# Altium schematic symbol library NSC Audio.SchLib: 691 symbols (part 14 of 18)
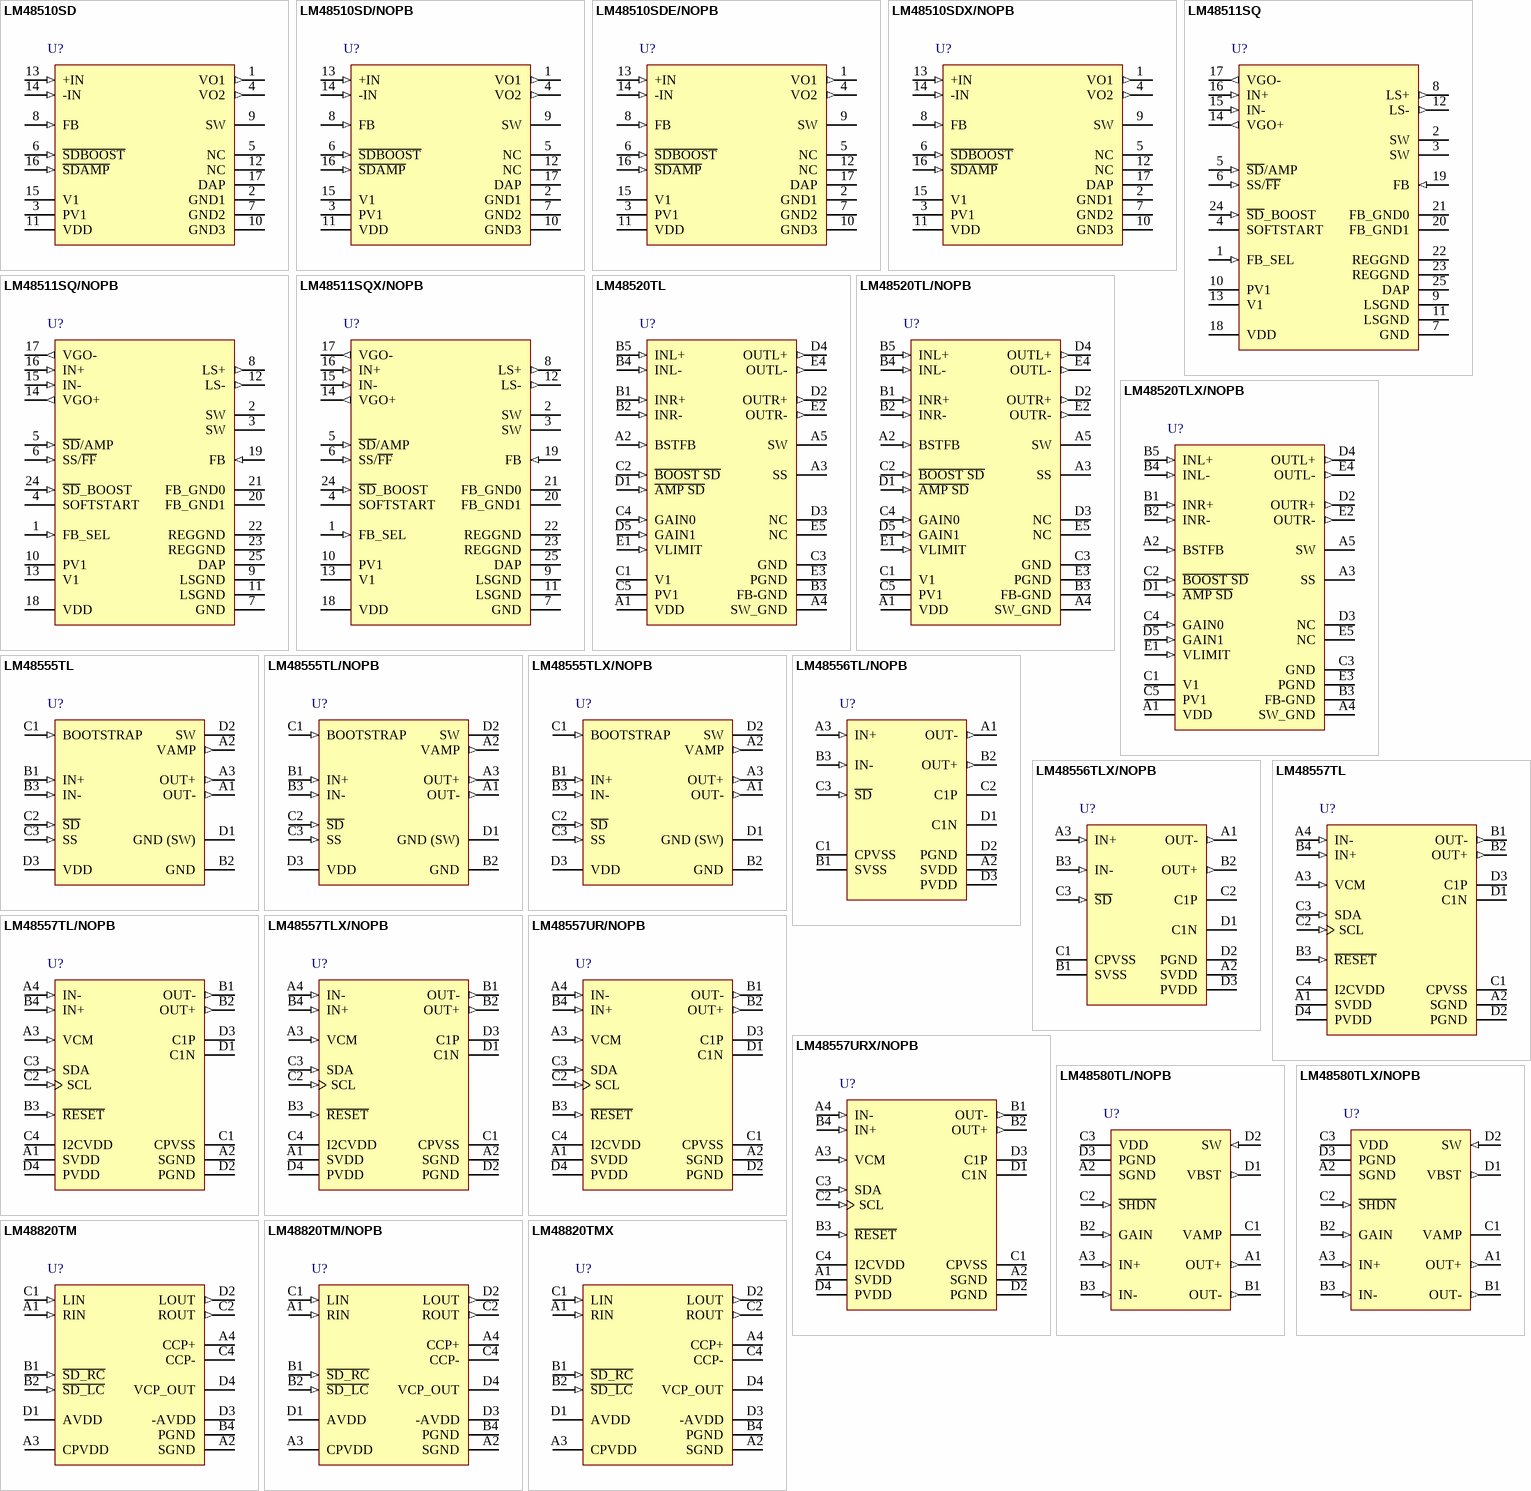
[diagram p40: symbols LM48510SD to LM48820TMX]

## LM48555TLX/NOPB
designator U?
Ceramic Speaker Driver, 12-pin Micro SMD, Pb-Free; PartNumber: LM48555TLX/NOPB; Manufacturer: National Semiconductor; PackageTopMarking: XVG*I I4; PowerWise: N; CompType: Audio IC; Published: 1-Mar-2010; DatasheetVersion: Mar-2007; PackageVersion: revC, Jan-2004; PackageReference: TLA12Z1A; Publisher: Altium Limited; PackageDescription: Thin Micro SMD, 12 Bump (Large), Area Array, 0.5mm Pitch; Supplier 1: Digi-Key; Supplier Part Number 1: LM48555TLX-ND; RoHS: Y; PinCount: 12; Code_JEDEC: MO-211-DE; ComponentLink1Description: LM48555 Datasheet; ComponentLink1URL: http://www.national.com/ds/LM/LM48555.pdf; ComponentLink2Description: LM48555 Web Page; ComponentLink2URL: http://www.national.com/pf/LM/LM48555.html; ComponentLink3Description: TLA12Z1A Package Page; ComponentLink3URL: http://www.national.com/packaging/folders/tla12z1a.html
footprint TLA12Z1A (Micro SMD, 12-Leads, Body 1.97x1.47mm, Pitch 0.5mm, NSC Recommended)
pins: A1 OUT- (out), A2 VAMP (out), A3 OUT+ (out), B1 IN+ (in), B2 GND (power), B3 IN- (in), C1 BOOTSTRAP (in), C2 ~{SD} (in), C3 SS (in), D1 GND (SW) (power), D2 SW (oc), D3 VDD (power)

## LM48556TL/NOPB
designator U?
Fully Differential, Mono, Ceramic Speaker Driver, 12-pin Micro SMD, Pb-Free; PartNumber: LM48556TL/NOPB; Manufacturer: National Semiconductor; PackageTopMarking: XYTT*I GK4; PowerWise: N; CompType: Audio IC; Published: 1-Mar-2010; DatasheetVersion: Dec-2008; PackageVersion: revC, Jan-2004; PackageReference: TLA121AA; Publisher: Altium Limited; PackageDescription: Thin Micro SMD, 12 Bump (Large), Area Array, 0.5mm Pitch; Supplier 1: Digi-Key; Supplier Part Number 1: LM48556TLTR-ND; Supplier 2: Digi-Key; Supplier Part Number 2: LM48556TLCT-ND; Supplier 3: Digi-Key; Supplier Part Number 3: LM48556TLDKR-ND; RoHS: Y; PinCount: 12; Code_JEDEC: MO-211-DE; ComponentLink1Description: LM48556 Datasheet; ComponentLink1URL: http://www.national.com/ds/LM/LM48556.pdf; ComponentLink2Description: LM48556 Web Page; ComponentLink2URL: http://www.national.com/pf/LM/LM48556.html; ComponentLink3Description: TLA121AA Package Page; ComponentLink3URL: http://www.national.com/packaging/folders/tla121aa.html
footprint TLA121AA (Micro SMD, 12-Leads, Body 2.0x1.49mm, Pitch 0.5mm, NSC Recommended)
pins: A1 OUT- (out), A2 SVDD (power), A3 IN+ (in), B1 SVSS (power), B2 OUT+ (out), B3 IN- (in), C1 CPVSS (power), C2 C1P, C3 ~{SD} (in), D1 C1N, D2 PGND (power), D3 PVDD (power)

## LM48556TLX/NOPB
designator U?
Fully Differential, Mono, Ceramic Speaker Driver, 12-pin Micro SMD, Pb-Free; PartNumber: LM48556TLX/NOPB; Manufacturer: National Semiconductor; PackageTopMarking: XYTT*I GK4; PowerWise: N; CompType: Audio IC; Published: 1-Mar-2010; DatasheetVersion: Dec-2008; PackageVersion: revC, Jan-2004; PackageReference: TLA121AA; Publisher: Altium Limited; PackageDescription: Thin Micro SMD, 12 Bump (Large), Area Array, 0.5mm Pitch; Supplier 1: Digi-Key; Supplier Part Number 1: LM48556TLX-ND; RoHS: Y; PinCount: 12; Code_JEDEC: MO-211-DE; ComponentLink1Description: LM48556 Datasheet; ComponentLink1URL: http://www.national.com/ds/LM/LM48556.pdf; ComponentLink2Description: LM48556 Web Page; ComponentLink2URL: http://www.national.com/pf/LM/LM48556.html; ComponentLink3Description: TLA121AA Package Page; ComponentLink3URL: http://www.national.com/packaging/folders/tla121aa.html
footprint TLA121AA (Micro SMD, 12-Leads, Body 2.0x1.49mm, Pitch 0.5mm, NSC Recommended)
pins: A1 OUT- (out), A2 SVDD (power), A3 IN+ (in), B1 SVSS (power), B2 OUT+ (out), B3 IN- (in), C1 CPVSS (power), C2 C1P, C3 ~{SD} (in), D1 C1N, D2 PGND (power), D3 PVDD (power)

## LM48557TL
designator U?
Mono, Bridge-Tied Load, Ceramic Speaker Driver with I2C Volume Control and Reset, 16-pin Micro SMD; PartNumber: LM48557TL; Manufacturer: National Semiconductor; PackageTopMarking: XYTT*I GM2; PowerWise: N; CompType: Audio IC; Published: 9-Oct-2009; DatasheetVersion: Aug-2009; PackageVersion: revC, Jan-2004; PackageReference: TLA1611A; Publisher: Altium Limited; PackageDescription: Thin Micro SMD, 16 Bump (Large), 0.5mm Pitch; RoHS: Y; PinCount: 16; Code_JEDEC: MO-211-DF; ComponentLink1Description: LM48557 Datasheet; ComponentLink1URL: http://www.national.com/ds/LM/LM48557.pdf; ComponentLink2Description: LM48557 Web Page; ComponentLink2URL: http://www.national.com/pf/LM/LM48557.html; ComponentLink3Description: TLA1611A Package Page; ComponentLink3URL: http://www.national.com/packaging/folders/tla1611a.html
footprint TLA1611A (Micro SMD, 16-Leads, Body 1.97x1.97mm, Pitch 0.5mm, NSC Recommended)
pins: A1 SVDD (power), A2 SGND (power), A3 VCM (in), A4 IN- (in), B1 OUT- (out), B2 OUT+ (out), B3 ~{RESET} (in), B4 IN+ (in), C1 CPVSS (power), C2 SCL (in), C3 SDA (in), C4 I2CVDD (power), D1 C1N, D2 PGND (power), D3 C1P, D4 PVDD (power)

## LM48557TL/NOPB
designator U?
Mono, Bridge-Tied Load, Ceramic Speaker Driver with I2C Volume Control and Reset, 16-pin Micro SMD, Pb-Free; PartNumber: LM48557TL/NOPB; Manufacturer: National Semiconductor; PackageTopMarking: XYTT*I GM2; PowerWise: N; CompType: Audio IC; Published: 1-Mar-2010; DatasheetVersion: Aug-2009; PackageVersion: revC, Jan-2004; PackageReference: TLA1611A; Publisher: Altium Limited; PackageDescription: Thin Micro SMD, 16 Bump (Large), 0.5mm Pitch; Supplier 1: Digi-Key; Supplier Part Number 1: LM48557TLTR-ND; Supplier 2: Digi-Key; Supplier Part Number 2: LM48557TLCT-ND; Supplier 3: Digi-Key; Supplier Part Number 3: LM48557TLDKR-ND; RoHS: Y; PinCount: 16; Code_JEDEC: MO-211-DF; ComponentLink1Description: LM48557 Datasheet; ComponentLink1URL: http://www.national.com/ds/LM/LM48557.pdf; ComponentLink2Description: LM48557 Web Page; ComponentLink2URL: http://www.national.com/pf/LM/LM48557.html; ComponentLink3Description: TLA1611A Package Page; ComponentLink3URL: http://www.national.com/packaging/folders/tla1611a.html
footprint TLA1611A (Micro SMD, 16-Leads, Body 1.97x1.97mm, Pitch 0.5mm, NSC Recommended)
pins: A1 SVDD (power), A2 SGND (power), A3 VCM (in), A4 IN- (in), B1 OUT- (out), B2 OUT+ (out), B3 ~{RESET} (in), B4 IN+ (in), C1 CPVSS (power), C2 SCL (in), C3 SDA (in), C4 I2CVDD (power), D1 C1N, D2 PGND (power), D3 C1P, D4 PVDD (power)

## LM48557TLX/NOPB
designator U?
Mono, Bridge-Tied Load, Ceramic Speaker Driver with I2C Volume Control and Reset, 16-pin Micro SMD, Pb-Free; PartNumber: LM48557TLX/NOPB; Manufacturer: National Semiconductor; PackageTopMarking: XYTT*I GM2; PowerWise: N; CompType: Audio IC; Published: 1-Mar-2010; DatasheetVersion: Aug-2009; PackageVersion: revC, Jan-2004; PackageReference: TLA1611A; Publisher: Altium Limited; PackageDescription: Thin Micro SMD, 16 Bump (Large), 0.5mm Pitch; Supplier 1: Digi-Key; Supplier Part Number 1: LM48557TLX-ND; RoHS: Y; PinCount: 16; Code_JEDEC: MO-211-DF; ComponentLink1Description: LM48557 Datasheet; ComponentLink1URL: http://www.national.com/ds/LM/LM48557.pdf; ComponentLink2Description: LM48557 Web Page; ComponentLink2URL: http://www.national.com/pf/LM/LM48557.html; ComponentLink3Description: TLA1611A Package Page; ComponentLink3URL: http://www.national.com/packaging/folders/tla1611a.html
footprint TLA1611A (Micro SMD, 16-Leads, Body 1.97x1.97mm, Pitch 0.5mm, NSC Recommended)
pins: A1 SVDD (power), A2 SGND (power), A3 VCM (in), A4 IN- (in), B1 OUT- (out), B2 OUT+ (out), B3 ~{RESET} (in), B4 IN+ (in), C1 CPVSS (power), C2 SCL (in), C3 SDA (in), C4 I2CVDD (power), D1 C1N, D2 PGND (power), D3 C1P, D4 PVDD (power)

## LM48557UR/NOPB
designator U?
Mono, Bridge-Tied Load, Ceramic Speaker Driver with I2C Volume Control and Reset, 16 pin MICRO SMD; PartNumber: LM48557UR/NOPB; Manufacturer: National Semiconductor; PackageTopMarking: XYTT*I GN5; PowerWise: N; CompType: Audio IC; Published: 16-Nov-2010; DatasheetVersion: Aug-2009; PackageVersion: revC, Jan-2004; PackageReference: TLA1611A; Publisher: Altium Limited; PackageDescription: Thin Micro SMD, 16 Bump (Large), 0.5mm Pitch; RoHS: Y; PinCount: 16; Code_JEDEC: MO-211-DF; ComponentLink1Description: LM48557 Datasheet; ComponentLink1URL: http://www.national.com/ds/LM/LM48557.pdf; ComponentLink2Description: LM48557 Web Page; ComponentLink2URL: http://www.national.com/pf/LM/LM48557.html; ComponentLink3Description: URA1611A Package Page; ComponentLink3URL: http://www.national.com/packaging/folders/tla1611a.html
footprint TLA1611A (Micro SMD, 16-Leads, Body 1.97x1.97mm, Pitch 0.5mm, NSC Recommended)
pins: A1 SVDD (power), A2 SGND (power), A3 VCM (in), A4 IN- (in), B1 OUT- (out), B2 OUT+ (out), B3 ~{RESET} (in), B4 IN+ (in), C1 CPVSS (power), C2 SCL (in), C3 SDA (in), C4 I2CVDD (power), D1 C1N, D2 PGND (power), D3 C1P, D4 PVDD (power)

## LM48557URX/NOPB
designator U?
Mono, Bridge-Tied Load, Ceramic Speaker Driver with I2C Volume Control and Reset, 16 pin MICRO SMD; PartNumber: LM48557URX/NOPB; Manufacturer: National Semiconductor; PackageTopMarking: XYTT*I GN5; PowerWise: N; CompType: Audio IC; Published: 16-Nov-2010; DatasheetVersion: Aug-2009; PackageVersion: revC, Jan-2004; PackageReference: TLA1611A; Publisher: Altium Limited; PackageDescription: Thin Micro SMD, 16 Bump (Large), 0.5mm Pitch; RoHS: Y; PinCount: 16; Code_JEDEC: MO-211-DF; ComponentLink1Description: LM48557 Datasheet; ComponentLink1URL: http://www.national.com/ds/LM/LM48557.pdf; ComponentLink2Description: LM48557 Web Page; ComponentLink2URL: http://www.national.com/pf/LM/LM48557.html; ComponentLink3Description: URA1611A Package Page; ComponentLink3URL: http://www.national.com/packaging/folders/tla1611a.html
footprint TLA1611A (Micro SMD, 16-Leads, Body 1.97x1.97mm, Pitch 0.5mm, NSC Recommended)
pins: A1 SVDD (power), A2 SGND (power), A3 VCM (in), A4 IN- (in), B1 OUT- (out), B2 OUT+ (out), B3 ~{RESET} (in), B4 IN+ (in), C1 CPVSS (power), C2 SCL (in), C3 SDA (in), C4 I2CVDD (power), D1 C1N, D2 PGND (power), D3 C1P, D4 PVDD (power)

## LM48580TL/NOPB
designator U?
High Efficiency Class H, High Voltage, Haptic Piezo Actuator / Ceramic Speaker Driver, 12 pin Micro SMD, Pb-Free; PartNumber: LM48580TL/NOPB; Manufacturer: National Semiconductor; PackageTopMarking: XYTT*I GM3; PowerWise: Y; CompType: Audio IC; Published: 1-Mar-2010; DatasheetVersion: Feb-2010; PackageVersion: revC, Jan-2004; PackageReference: TLA12Z1A; Publisher: Altium Limited; PackageDescription: Thin Micro SMD, 12 Bump (Large), Area Array, 0.5mm Pitch; Supplier 1: Digi-Key; Supplier Part Number 1: LM48580TL/NOPB-ND; RoHS: Y; PinCount: 12; Code_JEDEC: MO-211-DE; ComponentLink1Description: LM48580 Datasheet; ComponentLink1URL: http://www.national.com/ds/LM/LM48580.pdf; ComponentLink2Description: LM48580 Web Page; ComponentLink2URL: http://www.national.com/pf/LM/LM48580.html; ComponentLink3Description: TLA12Z1A Package Page; ComponentLink3URL: http://www.national.com/packaging/folders/tla12z1a.html
footprint TLA12Z1A (Micro SMD, 12-Leads, Body 1.97x1.47mm, Pitch 0.5mm, NSC Recommended)
pins: A1 OUT+ (out), A2 SGND (power), A3 IN+ (in), B1 OUT- (out), B2 GAIN (in), B3 IN- (in), C1 VAMP (power), C2 ~{SHDN} (in), C3 VDD (power), D1 VBST (out), D2 SW (in), D3 PGND (power)

## LM48580TLX/NOPB
designator U?
High Efficiency Class H, High Voltage, Haptic Piezo Actuator / Ceramic Speaker Driver, 12 pin Micro SMD, Pb-Free; PartNumber: LM48580TLX/NOPB; Manufacturer: National Semiconductor; PackageTopMarking: XYTT*I GM3; PowerWise: Y; CompType: Audio IC; Published: 1-Mar-2010; DatasheetVersion: Feb-2010; PackageVersion: revC, Jan-2004; PackageReference: TLA12Z1A; Publisher: Altium Limited; PackageDescription: Thin Micro SMD, 12 Bump (Large), Area Array, 0.5mm Pitch; Supplier 1: Digi-Key; Supplier Part Number 1: LM48580TLXTR-ND; Supplier 2: Digi-Key; Supplier Part Number 2: LM48580TLXCT-ND; Supplier 3: Digi-Key; Supplier Part Number 3: LM48580TLXDKR-ND; RoHS: Y; PinCount: 12; Code_JEDEC: MO-211-DE; ComponentLink1Description: LM48580 Datasheet; ComponentLink1URL: http://www.national.com/ds/LM/LM48580.pdf; ComponentLink2Description: LM48580 Web Page; ComponentLink2URL: http://www.national.com/pf/LM/LM48580.html; ComponentLink3Description: TLA12Z1A Package Page; ComponentLink3URL: http://www.national.com/packaging/folders/tla12z1a.html
footprint TLA12Z1A (Micro SMD, 12-Leads, Body 1.97x1.47mm, Pitch 0.5mm, NSC Recommended)
pins: A1 OUT+ (out), A2 SGND (power), A3 IN+ (in), B1 OUT- (out), B2 GAIN (in), B3 IN- (in), C1 VAMP (power), C2 ~{SHDN} (in), C3 VDD (power), D1 VBST (out), D2 SW (in), D3 PGND (power)

## LM48820TM
designator U?
Ground-Referenced, Ultra Low Noise, Fixed Gain, 95mW Stereo Headphone Amplifier, 14-pin Micro SMD; PartNumber: LM48820TM; Manufacturer: National Semiconductor; PackageTopMarking: XYTT*I GI7; PowerWise: N; CompType: Audio IC; Published: 4-Dec-2008; DatasheetVersion: Jun-2007; PackageVersion: revA, 2007; PackageReference: TME14AAA; Publisher: Altium Limited; PackageDescription: Thin Micro SMD, Depopulated, 14 Bump, 0.4mm Pitch; RoHS: N; PinCount: 14; ComponentLink1Description: LM48820 Datasheet; ComponentLink1URL: http://www.national.com/ds/LM/LM48820.pdf; ComponentLink2Description: LM48820 Web Page; ComponentLink2URL: http://www.national.com/pf/LM/LM48820.html; ComponentLink3Description: TME14AAA Package Page; ComponentLink3URL: http://www.national.com/packaging/folders/tme14aaa.html
footprint TME14AAA (Micro SMD, 14-Leads, Body 1.62x1.62mm, Pitch 0.4mm, NSC Recommended)
pins: A1 RIN (in), A2 SGND (power), A3 CPVDD (power), A4 CCP+, B1 ~{SD_RC} (in), B2 ~{SD_LC} (in), B4 PGND (power), C1 LIN (in), C2 ROUT (out), C4 CCP-, D1 AVDD (power), D2 LOUT (out), D3 -AVDD (power), D4 VCP_OUT (power)

## LM48820TM/NOPB
designator U?
Ground-Referenced, Ultra Low Noise, Fixed Gain, 95mW Stereo Headphone Amplifier, 14-pin Micro SMD, Pb-Free; PartNumber: LM48820TM/NOPB; Manufacturer: National Semiconductor; PackageTopMarking: XYTT*I GI7; PowerWise: N; CompType: Audio IC; Published: 1-Mar-2010; DatasheetVersion: Jun-2007; PackageVersion: revA, 2007; PackageReference: TME14AAA; Publisher: Altium Limited; PackageDescription: Thin Micro SMD, Depopulated, 14 Bump, 0.4mm Pitch; Supplier 1: Digi-Key; Supplier Part Number 1: LM48820TMTR-ND; Supplier 2: Digi-Key; Supplier Part Number 2: LM48820TMCT-ND; Supplier 3: Digi-Key; Supplier Part Number 3: LM48820TMDKR-ND; Supplier 4: Farnell; Supplier Part Number 4: 1685332; RoHS: Y; PinCount: 14; ComponentLink1Description: LM48820 Datasheet; ComponentLink1URL: http://www.national.com/ds/LM/LM48820.pdf; ComponentLink2Description: LM48820 Web Page; ComponentLink2URL: http://www.national.com/pf/LM/LM48820.html; ComponentLink3Description: TME14AAA Package Page; ComponentLink3URL: http://www.national.com/packaging/folders/tme14aaa.html
footprint TME14AAA (Micro SMD, 14-Leads, Body 1.62x1.62mm, Pitch 0.4mm, NSC Recommended)
pins: A1 RIN (in), A2 SGND (power), A3 CPVDD (power), A4 CCP+, B1 ~{SD_RC} (in), B2 ~{SD_LC} (in), B4 PGND (power), C1 LIN (in), C2 ROUT (out), C4 CCP-, D1 AVDD (power), D2 LOUT (out), D3 -AVDD (power), D4 VCP_OUT (power)

## LM48820TMX
designator U?
Ground-Referenced, Ultra Low Noise, Fixed Gain, 95mW Stereo Headphone Amplifier, 14-pin Micro SMD; PartNumber: LM48820TMX; Manufacturer: National Semiconductor; PackageTopMarking: XYTT*I GI7; PowerWise: N; CompType: Audio IC; Published: 1-Mar-2010; DatasheetVersion: Jun-2007; PackageVersion: revA, 2007; PackageReference: TME14AAA; Publisher: Altium Limited; PackageDescription: Thin Micro SMD, Depopulated, 14 Bump, 0.4mm Pitch; RoHS: N; PinCount: 14; ComponentLink1Description: LM48820 Datasheet; ComponentLink1URL: http://www.national.com/ds/LM/LM48820.pdf; ComponentLink2Description: LM48820 Web Page; ComponentLink2URL: http://www.national.com/pf/LM/LM48820.html; ComponentLink3Description: TME14AAA Package Page; ComponentLink3URL: http://www.national.com/packaging/folders/tme14aaa.html
footprint TME14AAA (Micro SMD, 14-Leads, Body 1.62x1.62mm, Pitch 0.4mm, NSC Recommended)
pins: A1 RIN (in), A2 SGND (power), A3 CPVDD (power), A4 CCP+, B1 ~{SD_RC} (in), B2 ~{SD_LC} (in), B4 PGND (power), C1 LIN (in), C2 ROUT (out), C4 CCP-, D1 AVDD (power), D2 LOUT (out), D3 -AVDD (power), D4 VCP_OUT (power)

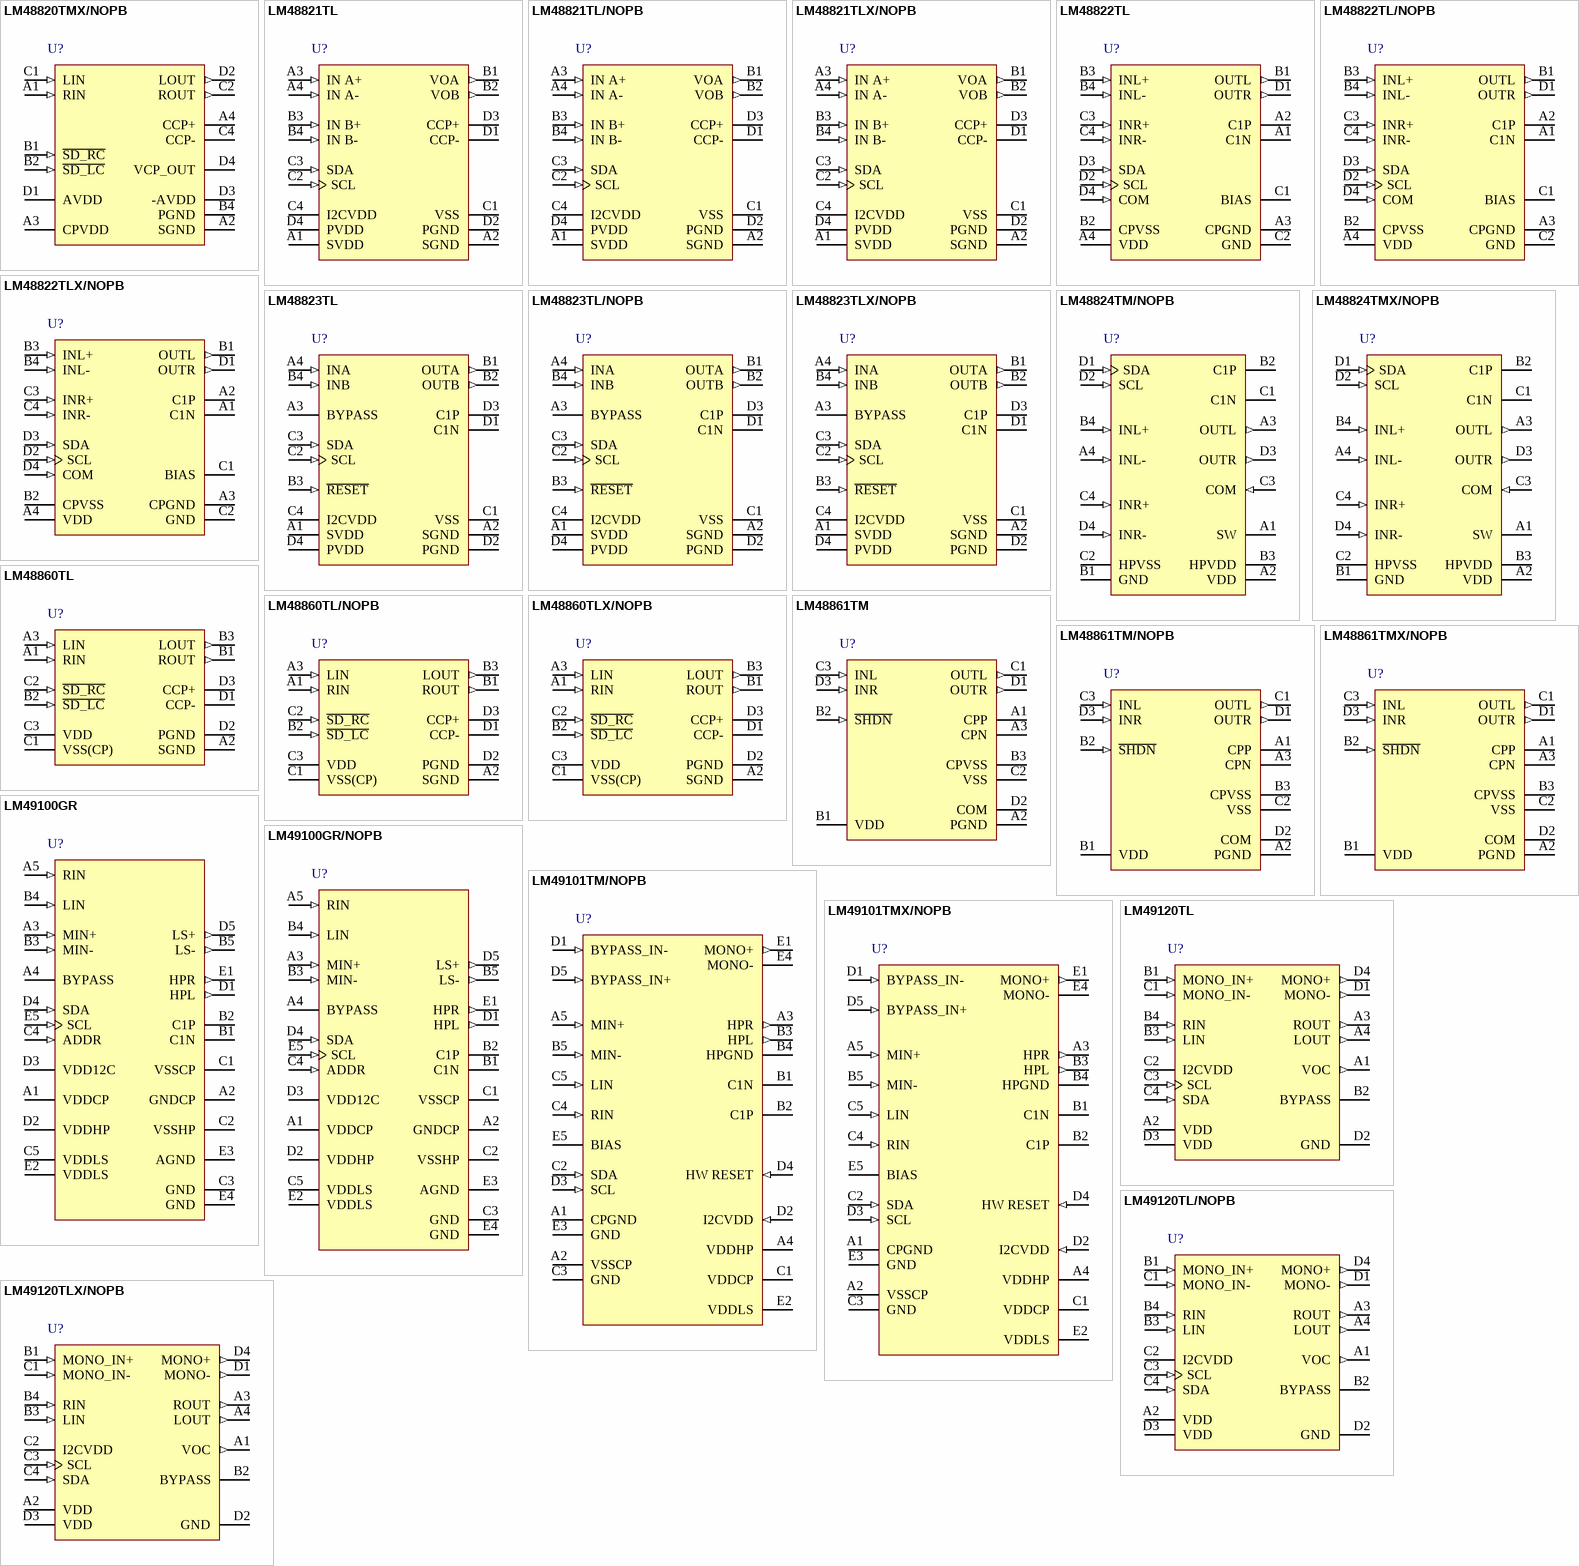
[diagram p20: symbols LM48820TMX/NOPB to LM49120TLX/NOPB]

## LM48820TMX/NOPB
designator U?
Ground-Referenced, Ultra Low Noise, Fixed Gain, 95mW Stereo Headphone Amplifier, 14-pin Micro SMD, Pb-Free; PartNumber: LM48820TMX/NOPB; Manufacturer: National Semiconductor; PackageTopMarking: XYTT*I GI7; PowerWise: N; CompType: Audio IC; Published: 1-Mar-2010; DatasheetVersion: Jun-2007; PackageVersion: revA, 2007; PackageReference: TME14AAA; Publisher: Altium Limited; PackageDescription: Thin Micro SMD, Depopulated, 14 Bump, 0.4mm Pitch; Supplier 1: Digi-Key; Supplier Part Number 1: LM48820TMX-ND; RoHS: Y; PinCount: 14; ComponentLink1Description: LM48820 Datasheet; ComponentLink1URL: http://www.national.com/ds/LM/LM48820.pdf; ComponentLink2Description: LM48820 Web Page; ComponentLink2URL: http://www.national.com/pf/LM/LM48820.html; ComponentLink3Description: TME14AAA Package Page; ComponentLink3URL: http://www.national.com/packaging/folders/tme14aaa.html
footprint TME14AAA (Micro SMD, 14-Leads, Body 1.62x1.62mm, Pitch 0.4mm, NSC Recommended)
pins: A1 RIN (in), A2 SGND (power), A3 CPVDD (power), A4 CCP+, B1 ~{SD_RC} (in), B2 ~{SD_LC} (in), B4 PGND (power), C1 LIN (in), C2 ROUT (out), C4 CCP-, D1 AVDD (power), D2 LOUT (out), D3 -AVDD (power), D4 VCP_OUT (power)

## LM48821TL
designator U?
Direct Coupled, Ultra Low Noise, 52mW Differential Input Stereo Headphone Amplifier with I2C Volume Control, 16-pin Micro SMD; PartNumber: LM48821TL; Manufacturer: National Semiconductor; PackageTopMarking: XYTT*I G16; PowerWise: N; CompType: Audio IC; Published: 4-Dec-2008; DatasheetVersion: Jun-2007; PackageVersion: revC, Jan-2004; PackageReference: TLA1611A; Publisher: Altium Limited; PackageDescription: Thin Micro SMD, 16 Bump (Large), 0.5mm Pitch; RoHS: Y; PinCount: 16; Code_JEDEC: MO-211-DF; ComponentLink1Description: LM48821 Datasheet; ComponentLink1URL: http://www.national.com/ds/LM/LM48821.pdf; ComponentLink2Description: LM48821 Web Page; ComponentLink2URL: http://www.national.com/pf/LM/LM48821.html; ComponentLink3Description: TLA1611A Package Page; ComponentLink3URL: http://www.national.com/packaging/folders/tla1611a.html
footprint TLA1611A (Micro SMD, 16-Leads, Body 1.97x1.97mm, Pitch 0.5mm, NSC Recommended)
pins: A1 SVDD (power), A2 SGND (power), A3 IN A+ (in), A4 IN A- (in), B1 VOA (out), B2 VOB (out), B3 IN B+ (in), B4 IN B- (in), C1 VSS (power), C2 SCL (in), C3 SDA (in), C4 I2CVDD (power), D1 CCP-, D2 PGND (power), D3 CCP+, D4 PVDD (power)

## LM48821TL/NOPB
designator U?
Direct Coupled, Ultra Low Noise, 52mW Differential Input Stereo Headphone Amplifier with I2C Volume Control, 16-pin Micro SMD, Pb-Free; PartNumber: LM48821TL/NOPB; Manufacturer: National Semiconductor; PackageTopMarking: XYTT*I G16; PowerWise: N; CompType: Audio IC; Published: 1-Mar-2010; DatasheetVersion: Jun-2007; PackageVersion: revC, Jan-2004; PackageReference: TLA1611A; Publisher: Altium Limited; PackageDescription: Thin Micro SMD, 16 Bump (Large), 0.5mm Pitch; Supplier 1: Digi-Key; Supplier Part Number 1: LM48821TLTR-ND; Supplier 2: Digi-Key; Supplier Part Number 2: LM48821TLCT-ND; Supplier 3: Digi-Key; Supplier Part Number 3: LM48821TLDKR-ND; RoHS: Y; PinCount: 16; Code_JEDEC: MO-211-DF; ComponentLink1Description: LM48821 Datasheet; ComponentLink1URL: http://www.national.com/ds/LM/LM48821.pdf; ComponentLink2Description: LM48821 Web Page; ComponentLink2URL: http://www.national.com/pf/LM/LM48821.html; ComponentLink3Description: TLA1611A Package Page; ComponentLink3URL: http://www.national.com/packaging/folders/tla1611a.html
footprint TLA1611A (Micro SMD, 16-Leads, Body 1.97x1.97mm, Pitch 0.5mm, NSC Recommended)
pins: A1 SVDD (power), A2 SGND (power), A3 IN A+ (in), A4 IN A- (in), B1 VOA (out), B2 VOB (out), B3 IN B+ (in), B4 IN B- (in), C1 VSS (power), C2 SCL (in), C3 SDA (in), C4 I2CVDD (power), D1 CCP-, D2 PGND (power), D3 CCP+, D4 PVDD (power)

## LM48821TLX/NOPB
designator U?
Direct Coupled, Ultra Low Noise, 52mW Differential Input Stereo Headphone Amplifier with I2C Volume Control, 16-pin Micro SMD, Pb-Free; PartNumber: LM48821TLX/NOPB; Manufacturer: National Semiconductor; PackageTopMarking: XYTT*I G16; PowerWise: N; CompType: Audio IC; Published: 1-Mar-2010; DatasheetVersion: Jun-2007; PackageVersion: revC, Jan-2004; PackageReference: TLA1611A; Publisher: Altium Limited; PackageDescription: Thin Micro SMD, 16 Bump (Large), 0.5mm Pitch; Supplier 1: Digi-Key; Supplier Part Number 1: LM48821TLX-ND; RoHS: Y; PinCount: 16; Code_JEDEC: MO-211-DF; ComponentLink1Description: LM48821 Datasheet; ComponentLink1URL: http://www.national.com/ds/LM/LM48821.pdf; ComponentLink2Description: LM48821 Web Page; ComponentLink2URL: http://www.national.com/pf/LM/LM48821.html; ComponentLink3Description: TLA1611A Package Page; ComponentLink3URL: http://www.national.com/packaging/folders/tla1611a.html
footprint TLA1611A (Micro SMD, 16-Leads, Body 1.97x1.97mm, Pitch 0.5mm, NSC Recommended)
pins: A1 SVDD (power), A2 SGND (power), A3 IN A+ (in), A4 IN A- (in), B1 VOA (out), B2 VOB (out), B3 IN B+ (in), B4 IN B- (in), C1 VSS (power), C2 SCL (in), C3 SDA (in), C4 I2CVDD (power), D1 CCP-, D2 PGND (power), D3 CCP+, D4 PVDD (power)

## LM48822TL
designator U?
Ground-Referenced, Ultra-High PSRR, Ultra Low Noise, 35mW/Channel Stereo Headphone AMplifier with Common Mode Sense, and I2C Volume Control, 16-pin Micro SMD; PartNumber: LM48822TL; Manufacturer: National Semiconductor; PackageTopMarking: XYTT*I GK1; PowerWise: N; CompType: Audio IC; Published: 4-Dec-2008; DatasheetVersion: Jul-2008; PackageVersion: revC, Jan-2004; PackageReference: TLA1611A; Publisher: Altium Limited; PackageDescription: Thin Micro SMD, 16 Bump (Large), 0.5mm Pitch; RoHS: Y; PinCount: 16; Code_JEDEC: MO-211-DF; ComponentLink1Description: LM48822 Datasheet; ComponentLink1URL: http://www.national.com/ds/LM/LM48822.pdf; ComponentLink2Description: LM48822 Web Page; ComponentLink2URL: http://www.national.com/pf/LM/LM48822.html; ComponentLink3Description: TLA1611A Package Page; ComponentLink3URL: http://www.national.com/packaging/folders/tla1611a.html
footprint TLA1611A (Micro SMD, 16-Leads, Body 1.97x1.97mm, Pitch 0.5mm, NSC Recommended)
pins: A1 C1N, A2 C1P, A3 CPGND (power), A4 VDD (power), B1 OUTL (out), B2 CPVSS (power), B3 INL+ (in), B4 INL- (in), C1 BIAS (power), C2 GND (power), C3 INR+ (in), C4 INR- (in), D1 OUTR (out), D2 SCL (in), D3 SDA (in), D4 COM (in)

## LM48822TL/NOPB
designator U?
Ground-Referenced, Ultra-High PSRR, Ultra Low Noise, 35mW/Channel Stereo Headphone AMplifier with Common Mode Sense, and I2C Volume Control, 16-pin Micro SMD, Pb-Free; PartNumber: LM48822TL/NOPB; Manufacturer: National Semiconductor; PackageTopMarking: XYTT*I GK1; PowerWise: N; CompType: Audio IC; Published: 1-Mar-2010; DatasheetVersion: Jul-2008; PackageVersion: revC, Jan-2004; PackageReference: TLA1611A; Publisher: Altium Limited; PackageDescription: Thin Micro SMD, 16 Bump (Large), 0.5mm Pitch; Supplier 1: Digi-Key; Supplier Part Number 1: LM48822TLTR-ND; Supplier 2: Digi-Key; Supplier Part Number 2: LM48822TLCT-ND; Supplier 3: Digi-Key; Supplier Part Number 3: LM48822TLDKR-ND; RoHS: Y; PinCount: 16; Code_JEDEC: MO-211-DF; ComponentLink1Description: LM48822 Datasheet; ComponentLink1URL: http://www.national.com/ds/LM/LM48822.pdf; ComponentLink2Description: LM48822 Web Page; ComponentLink2URL: http://www.national.com/pf/LM/LM48822.html; ComponentLink3Description: TLA1611A Package Page; ComponentLink3URL: http://www.national.com/packaging/folders/tla1611a.html
footprint TLA1611A (Micro SMD, 16-Leads, Body 1.97x1.97mm, Pitch 0.5mm, NSC Recommended)
pins: A1 C1N, A2 C1P, A3 CPGND (power), A4 VDD (power), B1 OUTL (out), B2 CPVSS (power), B3 INL+ (in), B4 INL- (in), C1 BIAS (power), C2 GND (power), C3 INR+ (in), C4 INR- (in), D1 OUTR (out), D2 SCL (in), D3 SDA (in), D4 COM (in)

## LM48822TLX/NOPB
designator U?
Ground-Referenced, Ultra-High PSRR, Ultra Low Noise, 35mW/Channel Stereo Headphone AMplifier with Common Mode Sense, and I2C Volume Control, 16-pin Micro SMD, Pb-Free; PartNumber: LM48822TLX/NOPB; Manufacturer: National Semiconductor; PackageTopMarking: XYTT*I GK1; PowerWise: N; CompType: Audio IC; Published: 1-Mar-2010; DatasheetVersion: Jul-2008; PackageVersion: revC, Jan-2004; PackageReference: TLA1611A; Publisher: Altium Limited; PackageDescription: Thin Micro SMD, 16 Bump (Large), 0.5mm Pitch; Supplier 1: Digi-Key; Supplier Part Number 1: LM48822TLX-ND; RoHS: Y; PinCount: 16; Code_JEDEC: MO-211-DF; ComponentLink1Description: LM48822 Datasheet; ComponentLink1URL: http://www.national.com/ds/LM/LM48822.pdf; ComponentLink2Description: LM48822 Web Page; ComponentLink2URL: http://www.national.com/pf/LM/LM48822.html; ComponentLink3Description: TLA1611A Package Page; ComponentLink3URL: http://www.national.com/packaging/folders/tla1611a.html
footprint TLA1611A (Micro SMD, 16-Leads, Body 1.97x1.97mm, Pitch 0.5mm, NSC Recommended)
pins: A1 C1N, A2 C1P, A3 CPGND (power), A4 VDD (power), B1 OUTL (out), B2 CPVSS (power), B3 INL+ (in), B4 INL- (in), C1 BIAS (power), C2 GND (power), C3 INR+ (in), C4 INR- (in), D1 OUTR (out), D2 SCL (in), D3 SDA (in), D4 COM (in)

## LM48823TL
designator U?
Mono, Bridge-Tied Load, Ceramic Speaker Driver with I2C Volume Control and Reset, 16-pin Micro SMD; PartNumber: LM48823TL; Manufacturer: National Semiconductor; PackageTopMarking: XYTT*I GK6; PowerWise: N; CompType: Audio IC; Published: 4-Dec-2008; DatasheetVersion: Jul-2008; PackageVersion: revC, Jan-2004; PackageReference: TLA1611A; Publisher: Altium Limited; PackageDescription: Thin Micro SMD, 16 Bump (Large), 0.5mm Pitch; RoHS: N; PinCount: 16; Code_JEDEC: MO-211-DF; ComponentLink1Description: LM48823 Datasheet; ComponentLink1URL: http://www.national.com/ds/LM/LM48823.pdf; ComponentLink2Description: LM48823 Web Page; ComponentLink2URL: http://www.national.com/pf/LM/LM48823.html; ComponentLink3Description: TLA1611A Package Page; ComponentLink3URL: http://www.national.com/packaging/folders/tla1611a.html
footprint TLA1611A (Micro SMD, 16-Leads, Body 1.97x1.97mm, Pitch 0.5mm, NSC Recommended)
pins: A1 SVDD (power), A2 SGND (power), A3 BYPASS, A4 INA (in), B1 OUTA (out), B2 OUTB (out), B3 ~{RESET} (in), B4 INB (in), C1 VSS (power), C2 SCL (in), C3 SDA (in), C4 I2CVDD (power), D1 C1N, D2 PGND (power), D3 C1P, D4 PVDD (power)

## LM48823TL/NOPB
designator U?
Mono, Bridge-Tied Load, Ceramic Speaker Driver with I2C Volume Control and Reset, 16-pin Micro SMD, Pb-Free; PartNumber: LM48823TL/NOPB; Manufacturer: National Semiconductor; PackageTopMarking: XYTT*I GK6; PowerWise: N; CompType: Audio IC; Published: 1-Mar-2010; DatasheetVersion: Jul-2008; PackageVersion: revC, Jan-2004; PackageReference: TLA1611A; Publisher: Altium Limited; PackageDescription: Thin Micro SMD, 16 Bump (Large), 0.5mm Pitch; Supplier 1: Digi-Key; Supplier Part Number 1: LM48823TLTR-ND; Supplier 2: Digi-Key; Supplier Part Number 2: LM48823TLCT-ND; Supplier 3: Digi-Key; Supplier Part Number 3: LM48823TLDKR-ND; RoHS: Y; PinCount: 16; Code_JEDEC: MO-211-DF; ComponentLink1Description: LM48823 Datasheet; ComponentLink1URL: http://www.national.com/ds/LM/LM48823.pdf; ComponentLink2Description: LM48823 Web Page; ComponentLink2URL: http://www.national.com/pf/LM/LM48823.html; ComponentLink3Description: TLA1611A Package Page; ComponentLink3URL: http://www.national.com/packaging/folders/tla1611a.html
footprint TLA1611A (Micro SMD, 16-Leads, Body 1.97x1.97mm, Pitch 0.5mm, NSC Recommended)
pins: A1 SVDD (power), A2 SGND (power), A3 BYPASS, A4 INA (in), B1 OUTA (out), B2 OUTB (out), B3 ~{RESET} (in), B4 INB (in), C1 VSS (power), C2 SCL (in), C3 SDA (in), C4 I2CVDD (power), D1 C1N, D2 PGND (power), D3 C1P, D4 PVDD (power)

## LM48823TLX/NOPB
designator U?
Mono, Bridge-Tied Load, Ceramic Speaker Driver with I2C Volume Control and Reset, 16-pin Micro SMD, Pb-Free; PartNumber: LM48823TLX/NOPB; Manufacturer: National Semiconductor; PackageTopMarking: XYTT*I GK6; PowerWise: N; CompType: Audio IC; Published: 1-Mar-2010; DatasheetVersion: Jul-2008; PackageVersion: revC, Jan-2004; PackageReference: TLA1611A; Publisher: Altium Limited; PackageDescription: Thin Micro SMD, 16 Bump (Large), 0.5mm Pitch; Supplier 1: Digi-Key; Supplier Part Number 1: LM48823TLX-ND; RoHS: Y; PinCount: 16; Code_JEDEC: MO-211-DF; ComponentLink1Description: LM48823 Datasheet; ComponentLink1URL: http://www.national.com/ds/LM/LM48823.pdf; ComponentLink2Description: LM48823 Web Page; ComponentLink2URL: http://www.national.com/pf/LM/LM48823.html; ComponentLink3Description: TLA1611A Package Page; ComponentLink3URL: http://www.national.com/packaging/folders/tla1611a.html
footprint TLA1611A (Micro SMD, 16-Leads, Body 1.97x1.97mm, Pitch 0.5mm, NSC Recommended)
pins: A1 SVDD (power), A2 SGND (power), A3 BYPASS, A4 INA (in), B1 OUTA (out), B2 OUTB (out), B3 ~{RESET} (in), B4 INB (in), C1 VSS (power), C2 SCL (in), C3 SDA (in), C4 I2CVDD (power), D1 C1N, D2 PGND (power), D3 C1P, D4 PVDD (power)

## LM48824TM/NOPB
designator U?
Class G Headphone Amplifier with I2C Volume Control, 16-pin Micro SMD, Pb-Free; PartNumber: LM48824TM/NOPB; Manufacturer: National Semiconductor; PackageTopMarking: XYTT*I GL6; PowerWise: N; CompType: Audio IC; Published: 1-Mar-2010; DatasheetVersion: Aug-2009; PackageVersion: revA, 2009; PackageReference: TMD16DDA; Publisher: Altium Limited; PackageDescription: Thin Micro SMD, 16 Bump, 0.4mm Pitch; Supplier 1: Digi-Key; Supplier Part Number 1: LM48824TMTR-ND; Supplier 2: Digi-Key; Supplier Part Number 2: LM48824TMCT-ND; Supplier 3: Digi-Key; Supplier Part Number 3: LM48824TMDKR-ND; RoHS: Y; PinCount: 16; ComponentLink1Description: LM48824 Datasheet; ComponentLink1URL: http://www.national.com/ds/LM/LM48824.pdf; ComponentLink2Description: LM48824 Web Page; ComponentLink2URL: http://www.national.com/pf/LM/LM48824.html; ComponentLink3Description: TMD16DDA Package Page; ComponentLink3URL: http://www.national.com/packaging/folders/tmd16dda.html
footprint TMD16DDA (Micro SMD, 16-Leads, Body 1.7x1.7mm, Pitch 0.4mm, NSC Recommended)
pins: A1 SW, A2 VDD (power), A3 OUTL (out), A4 INL- (in), B1 GND (power), B2 C1P, B3 HPVDD (power), B4 INL+ (in), C1 C1N, C2 HPVSS, C3 COM (in), C4 INR+ (in), D1 SDA (in), D2 SCL (in), D3 OUTR (out), D4 INR- (in)

## LM48824TMX/NOPB
designator U?
Class G Headphone Amplifier with I2C Volume Control, 16-pin Micro SMD, Pb-Free; PartNumber: LM48824TMX/NOPB; Manufacturer: National Semiconductor; PackageTopMarking: XYTT*I GL6; PowerWise: N; CompType: Audio IC; Published: 1-Mar-2010; DatasheetVersion: Aug-2009; PackageVersion: revA, 2009; PackageReference: TMD16DDA; Publisher: Altium Limited; PackageDescription: Thin Micro SMD, 16 Bump, 0.4mm Pitch; Supplier 1: Digi-Key; Supplier Part Number 1: LM48824TMX-ND; RoHS: Y; PinCount: 16; ComponentLink1Description: LM48824 Datasheet; ComponentLink1URL: http://www.national.com/ds/LM/LM48824.pdf; ComponentLink2Description: LM48824 Web Page; ComponentLink2URL: http://www.national.com/pf/LM/LM48824.html; ComponentLink3Description: TMD16DDA Package Page; ComponentLink3URL: http://www.national.com/packaging/folders/tmd16dda.html
footprint TMD16DDA (Micro SMD, 16-Leads, Body 1.7x1.7mm, Pitch 0.4mm, NSC Recommended)
pins: A1 SW, A2 VDD (power), A3 OUTL (out), A4 INL- (in), B1 GND (power), B2 C1P, B3 HPVDD (power), B4 INL+ (in), C1 C1N, C2 HPVSS, C3 COM (in), C4 INR+ (in), D1 SDA (in), D2 SCL (in), D3 OUTR (out), D4 INR- (in)

## LM48860TL
designator U?
Ground-Referenced, Ultra Low Noise, Fixed Gain Stereo Headphone Amplifier, 12-pin Micro SMD; PartNumber: LM48860TL; Manufacturer: National Semiconductor; PackageTopMarking: XYTT*I GJ7; PowerWise: N; CompType: Audio IC; Published: 4-Dec-2008; DatasheetVersion: Oct-2008; PackageVersion: revC, Jan-2004; PackageReference: TLA12Z1A; Publisher: Altium Limited; PackageDescription: Thin Micro SMD, 12 Bump (Large), Area Array, 0.5mm Pitch; Supplier 1: Farnell; Supplier Part Number 1: 1609168; RoHS: Y; PinCount: 12; Code_JEDEC: MO-211-DE; ComponentLink1Description: LM48860 Datasheet; ComponentLink1URL: http://www.national.com/ds/LM/LM48860.pdf; ComponentLink2Description: LM48860 Web Page; ComponentLink2URL: http://www.national.com/pf/LM/LM48860.html; ComponentLink3Description: TLA12Z1A Package Page; ComponentLink3URL: http://www.national.com/packaging/folders/tla12z1a.html
footprint TLA12Z1A (Micro SMD, 12-Leads, Body 1.97x1.47mm, Pitch 0.5mm, NSC Recommended)
pins: A1 RIN (in), A2 SGND (power), A3 LIN (in), B1 ROUT (out), B2 ~{SD_LC} (in), B3 LOUT (out), C1 VSS(CP) (power), C2 ~{SD_RC} (in), C3 VDD (power), D1 CCP-, D2 PGND (power), D3 CCP+

## LM48860TL/NOPB
designator U?
Ground-Referenced, Ultra Low Noise, Fixed Gain Stereo Headphone Amplifier, 12-pin Micro SMD, Pb-Free; PartNumber: LM48860TL/NOPB; Manufacturer: National Semiconductor; PackageTopMarking: XYTT*I GJ7; PowerWise: N; CompType: Audio IC; Published: 1-Mar-2010; DatasheetVersion: Oct-2008; PackageVersion: revC, Jan-2004; PackageReference: TLA12Z1A; Publisher: Altium Limited; PackageDescription: Thin Micro SMD, 12 Bump (Large), Area Array, 0.5mm Pitch; Supplier 1: Digi-Key; Supplier Part Number 1: LM48860TLTR-ND; Supplier 2: Digi-Key; Supplier Part Number 2: LM48860TLCT-ND; Supplier 3: Digi-Key; Supplier Part Number 3: LM48860TLDKR-ND; RoHS: Y; PinCount: 12; Code_JEDEC: MO-211-DE; ComponentLink1Description: LM48860 Datasheet; ComponentLink1URL: http://www.national.com/ds/LM/LM48860.pdf; ComponentLink2Description: LM48860 Web Page; ComponentLink2URL: http://www.national.com/pf/LM/LM48860.html; ComponentLink3Description: TLA12Z1A Package Page; ComponentLink3URL: http://www.national.com/packaging/folders/tla12z1a.html
footprint TLA12Z1A (Micro SMD, 12-Leads, Body 1.97x1.47mm, Pitch 0.5mm, NSC Recommended)
pins: A1 RIN (in), A2 SGND (power), A3 LIN (in), B1 ROUT (out), B2 ~{SD_LC} (in), B3 LOUT (out), C1 VSS(CP) (power), C2 ~{SD_RC} (in), C3 VDD (power), D1 CCP-, D2 PGND (power), D3 CCP+

## LM48860TLX/NOPB
designator U?
Ground-Referenced, Ultra Low Noise, Fixed Gain Stereo Headphone Amplifier, 12-pin Micro SMD, Pb-Free; PartNumber: LM48860TLX/NOPB; Manufacturer: National Semiconductor; PackageTopMarking: XYTT*I GJ7; PowerWise: N; CompType: Audio IC; Published: 1-Mar-2010; DatasheetVersion: Oct-2008; PackageVersion: revC, Jan-2004; PackageReference: TLA12Z1A; Publisher: Altium Limited; PackageDescription: Thin Micro SMD, 12 Bump (Large), Area Array, 0.5mm Pitch; Supplier 1: Digi-Key; Supplier Part Number 1: LM48860TLX-ND; RoHS: Y; PinCount: 12; Code_JEDEC: MO-211-DE; ComponentLink1Description: LM48860 Datasheet; ComponentLink1URL: http://www.national.com/ds/LM/LM48860.pdf; ComponentLink2Description: LM48860 Web Page; ComponentLink2URL: http://www.national.com/pf/LM/LM48860.html; ComponentLink3Description: TLA12Z1A Package Page; ComponentLink3URL: http://www.national.com/packaging/folders/tla12z1a.html
footprint TLA12Z1A (Micro SMD, 12-Leads, Body 1.97x1.47mm, Pitch 0.5mm, NSC Recommended)
pins: A1 RIN (in), A2 SGND (power), A3 LIN (in), B1 ROUT (out), B2 ~{SD_LC} (in), B3 LOUT (out), C1 VSS(CP) (power), C2 ~{SD_RC} (in), C3 VDD (power), D1 CCP-, D2 PGND (power), D3 CCP+

## LM48861TM
designator U?
PowerWise Ground-Referenced, Ultra Low Noise, Stereo Headphone Amplifier, 12-pin Micro SMD; PartNumber: LM48861TM; Manufacturer: National Semiconductor; PackageTopMarking: XVG*I K3; PowerWise: Y; CompType: Audio IC; Published: 4-Dec-2008; DatasheetVersion: Jun-2008; PackageVersion: revA, 2008; PackageReference: TMD12AAA; Publisher: Altium Limited; PackageDescription: Thin Micro SMD, 12 Bump, 0.4mm Pitch; RoHS: Y; PinCount: 12; ComponentLink1Description: LM48861 Datasheet; ComponentLink1URL: http://www.national.com/ds/LM/LM48861.pdf; ComponentLink2Description: LM48861 Web Page; ComponentLink2URL: http://www.national.com/pf/LM/LM48861.html
footprint TMD12AAA (Micro SMD, 12-Leads, Body 1.62x1.22mm, Pitch 0.4mm, NSC Recommended)
pins: A1 CPP, A2 PGND (power), A3 CPN, B1 VDD (power), B2 ~{SHDN} (in), B3 CPVSS (power), C1 OUTL (out), C2 VSS (power), C3 INL (in), D1 OUTR (out), D2 COM (power), D3 INR (in)

## LM48861TM/NOPB
designator U?
PowerWise Ground-Referenced, Ultra Low Noise, Stereo Headphone Amplifier, 12-pin Micro SMD, Pb-Free; PartNumber: LM48861TM/NOPB; Manufacturer: National Semiconductor; PackageTopMarking: XVG*I K3; PowerWise: Y; CompType: Audio IC; Published: 1-Mar-2010; DatasheetVersion: Jun-2008; PackageVersion: revA, 2008; PackageReference: TMD12AAA; Publisher: Altium Limited; PackageDescription: Thin Micro SMD, 12 Bump, 0.4mm Pitch; Supplier 1: Digi-Key; Supplier Part Number 1: LM48861TMTR-ND; Supplier 2: Digi-Key; Supplier Part Number 2: LM48861TMCT-ND; Supplier 3: Digi-Key; Supplier Part Number 3: LM48861TMDKR-ND; RoHS: Y; PinCount: 12; ComponentLink1Description: LM48861 Datasheet; ComponentLink1URL: http://www.national.com/ds/LM/LM48861.pdf; ComponentLink2Description: LM48861 Web Page; ComponentLink2URL: http://www.national.com/pf/LM/LM48861.html; ComponentLink3Description: TMD12AAA Package Page; ComponentLink3URL: http://www.national.com/packaging/folders/tmd12aaa.html
footprint TMD12AAA (Micro SMD, 12-Leads, Body 1.62x1.22mm, Pitch 0.4mm, NSC Recommended)
pins: A1 CPP, A2 PGND (power), A3 CPN, B1 VDD (power), B2 ~{SHDN} (in), B3 CPVSS (power), C1 OUTL (out), C2 VSS (power), C3 INL (in), D1 OUTR (out), D2 COM (power), D3 INR (in)

## LM48861TMX/NOPB
designator U?
PowerWise Ground-Referenced, Ultra Low Noise, Stereo Headphone Amplifier, 12-pin Micro SMD, Pb-Free; PartNumber: LM48861TMX/NOPB; Manufacturer: National Semiconductor; PackageTopMarking: XVG*I K3; PowerWise: Y; CompType: Audio IC; Published: 1-Mar-2010; DatasheetVersion: Jun-2008; PackageVersion: revA, 2008; PackageReference: TMD12AAA; Publisher: Altium Limited; PackageDescription: Thin Micro SMD, 12 Bump, 0.4mm Pitch; Supplier 1: Digi-Key; Supplier Part Number 1: LM48861TMX-ND; RoHS: Y; PinCount: 12; ComponentLink1Description: LM48861 Datasheet; ComponentLink1URL: http://www.national.com/ds/LM/LM48861.pdf; ComponentLink2Description: LM48861 Web Page; ComponentLink2URL: http://www.national.com/pf/LM/LM48861.html; ComponentLink3Description: TMD12AAA Package Page; ComponentLink3URL: http://www.national.com/packaging/folders/tmd12aaa.html
footprint TMD12AAA (Micro SMD, 12-Leads, Body 1.62x1.22mm, Pitch 0.4mm, NSC Recommended)
pins: A1 CPP, A2 PGND (power), A3 CPN, B1 VDD (power), B2 ~{SHDN} (in), B3 CPVSS (power), C1 OUTL (out), C2 VSS (power), C3 INL (in), D1 OUTR (out), D2 COM (power), D3 INR (in)

## LM49100GR
designator U?
Mono Class AB Audio Sub-System with a True-Ground Headphone Amplifier, 25-pin Micro-Array; PartNumber: LM49100GR; Manufacturer: National Semiconductor; PackageTopMarking: XYTT*GC9; PowerWise: N; CompType: Audio IC; Published: 4-Dec-2008; DatasheetVersion: Sep-2007; PackageVersion: revA, Mar-2004; PackageReference: GRA25A; Publisher: Altium Limited; PackageDescription: Micro-Array, 3x3x1mm Body, 25 Ball, 0.5mm Pitch; Supplier 1: Farnell; Supplier Part Number 1: 1433170; RoHS: Y; PinCount: 25; ComponentLink1Description: LM49100 Datasheet; ComponentLink1URL: http://www.national.com/ds/LM/LM49100.pdf; ComponentLink2Description: LM49100 Web Page; ComponentLink2URL: http://www.national.com/pf/LM/LM49100.html; ComponentLink3Description: GRA25A Package Page; ComponentLink3URL: http://www.national.com/packaging/folders/gra25a.html
footprint GRA25A (BGA, 25-Leads, Body 3x3mm, Pitch 0.5mm, NSC Recommended)
pins: A1 VDDCP (power), A2 GNDCP (power), A3 MIN+ (in), A4 BYPASS, A5 RIN (in), B1 C1N, B2 C1P, B3 MIN- (in), B4 LIN (in), B5 LS- (out), C1 VSSCP (power), C2 VSSHP (power), C3 GND (power), C4 ADDR (in), C5 VDDLS (power), D1 HPL (out), D2 VDDHP (power), D3 VDD12C (power), D4 SDA (in), D5 LS+ (out), E1 HPR (out), E2 VDDLS (power), E3 AGND (power), E4 GND (power), E5 SCL (in)

## LM49100GR/NOPB
designator U?
Mono Class AB Audio Sub-System with a True-Ground Headphone Amplifier, 25-pin Micro-Array, Pb-Free; PartNumber: LM49100GR/NOPB; Manufacturer: National Semiconductor; PackageTopMarking: XYTT*GC9; PowerWise: N; CompType: Audio IC; Published: 1-Mar-2010; DatasheetVersion: Sep-2007; PackageVersion: revA, Mar-2004; PackageReference: GRA25A; Publisher: Altium Limited; PackageDescription: Micro-Array, 3x3x1mm Body, 25 Ball, 0.5mm Pitch; Supplier 1: Digi-Key; Supplier Part Number 1: LM49100GRTR-ND; Supplier 2: Digi-Key; Supplier Part Number 2: LM49100GRCT-ND; Supplier 3: Digi-Key; Supplier Part Number 3: LM49100GRDKR-ND; RoHS: Y; PinCount: 25; ComponentLink1Description: LM49100 Datasheet; ComponentLink1URL: http://www.national.com/ds/LM/LM49100.pdf; ComponentLink2Description: LM49100 Web Page; ComponentLink2URL: http://www.national.com/pf/LM/LM49100.html; ComponentLink3Description: GRA25A Package Page; ComponentLink3URL: http://www.national.com/packaging/folders/gra25a.html
footprint GRA25A (BGA, 25-Leads, Body 3x3mm, Pitch 0.5mm, NSC Recommended)
pins: A1 VDDCP (power), A2 GNDCP (power), A3 MIN+ (in), A4 BYPASS, A5 RIN (in), B1 C1N, B2 C1P, B3 MIN- (in), B4 LIN (in), B5 LS- (out), C1 VSSCP (power), C2 VSSHP (power), C3 GND (power), C4 ADDR (in), C5 VDDLS (power), D1 HPL (out), D2 VDDHP (power), D3 VDD12C (power), D4 SDA (in), D5 LS+ (out), E1 HPR (out), E2 VDDLS (power), E3 AGND (power), E4 GND (power), E5 SCL (in)

## LM49101TM/NOPB
designator U?
Mono Class AB Audio Subsystem with a True Ground Headphone Amplifier and Earpiece Switch, 25-pin Micro SMD, Pb-Free; PartNumber: LM49101TM/NOPB; Manufacturer: National Semiconductor; PackageTopMarking: XYTT*I GL4; PowerWise: Y; CompType: Audio IC; Published: 1-Mar-2010; DatasheetVersion: Mar-2009; PackageVersion: revC, 2009; PackageReference: TMD25BCA; Publisher: Altium Limited; PackageDescription: Thin Micro SMD, 25 Bump, 0.4mm Pitch; Supplier 1: Digi-Key; Supplier Part Number 1: LM49101TMTR-ND; Supplier 2: Digi-Key; Supplier Part Number 2: LM49101TMCT-ND; Supplier 3: Digi-Key; Supplier Part Number 3: LM49101TMDKR-ND; RoHS: Y; PinCount: 25; ComponentLink1Description: LM49101 Datasheet; ComponentLink1URL: http://www.national.com/ds/LM/LM49101.pdf; ComponentLink2Description: LM49101 Web Page; ComponentLink2URL: http://www.national.com/pf/LM/LM49101.html; ComponentLink3Description: TMD25BCA Package Page; ComponentLink3URL: http://www.national.com/packaging/folders/tmd25bca.html
footprint TMD25BCA (Micro SMD, 25-Leads, Body 2.07x2.04mm, Pitch 0.4mm, NSC Recommended)
pins: A1 CPGND (power), A2 VSSCP (power), A3 HPR (out), A4 VDDHP (power), A5 MIN+ (in), B1 C1N, B2 C1P, B3 HPL (out), B4 HPGND (power), B5 MIN- (in), C1 VDDCP (power), C2 SDA (in), C3 GND (power), C4 RIN (in), C5 LIN (in), D1 BYPASS_IN- (in), D2 I2CVDD (in), D3 SCL (in), D4 HW RESET (in), D5 BYPASS_IN+ (in), E1 MONO+ (out), E2 VDDLS (power), E3 GND (power), E4 MONO-, E5 BIAS

## LM49101TMX/NOPB
designator U?
Mono Class AB Audio Subsystem with a True Ground Headphone Amplifier and Earpiece Switch, 25-pin Micro SMD, Pb-Free; PartNumber: LM49101TMX/NOPB; Manufacturer: National Semiconductor; PackageTopMarking: XYTT*I GL4; PowerWise: Y; CompType: Audio IC; Published: 1-Mar-2010; DatasheetVersion: Mar-2009; PackageVersion: revC, 2009; PackageReference: TMD25BCA; Publisher: Altium Limited; PackageDescription: Thin Micro SMD, 25 Bump, 0.4mm Pitch; Supplier 1: Digi-Key; Supplier Part Number 1: LM49101TMX-ND; RoHS: Y; PinCount: 25; ComponentLink1Description: LM49101 Datasheet; ComponentLink1URL: http://www.national.com/ds/LM/LM49101.pdf; ComponentLink2Description: LM49101 Web Page; ComponentLink2URL: http://www.national.com/pf/LM/LM49101.html; ComponentLink3Description: TMD25BCA Package Page; ComponentLink3URL: http://www.national.com/packaging/folders/tmd25bca.html
footprint TMD25BCA (Micro SMD, 25-Leads, Body 2.07x2.04mm, Pitch 0.4mm, NSC Recommended)
pins: A1 CPGND (power), A2 VSSCP (power), A3 HPR (out), A4 VDDHP (power), A5 MIN+ (in), B1 C1N, B2 C1P, B3 HPL (out), B4 HPGND (power), B5 MIN- (in), C1 VDDCP (power), C2 SDA (in), C3 GND (power), C4 RIN (in), C5 LIN (in), D1 BYPASS_IN- (in), D2 I2CVDD (in), D3 SCL (in), D4 HW RESET (in), D5 BYPASS_IN+ (in), E1 MONO+ (out), E2 VDDLS (power), E3 GND (power), E4 MONO-, E5 BIAS

## LM49120TL
designator U?
Audio Sub-System with Mono Class AB Loudspeaker Amplifier and Stereo OCL/SE Headphone Amplifier, 16-pin Micro SMD; PartNumber: LM49120TL; Manufacturer: National Semiconductor; PackageTopMarking: XYTT*I GK2; PowerWise: N; CompType: Audio IC; Published: 4-Dec-2008; DatasheetVersion: Jul-2008; PackageVersion: revC, Jan-2004; PackageReference: TLA1611A; Publisher: Altium Limited; PackageDescription: Thin Micro SMD, 16 Bump (Large), 0.5mm Pitch; RoHS: Y; PinCount: 16; Code_JEDEC: MO-211-DF; ComponentLink1Description: LM49120 Datasheet; ComponentLink1URL: http://www.national.com/ds/LM/LM49120.pdf; ComponentLink2Description: LM49120 Web Page; ComponentLink2URL: http://www.national.com/pf/LM/LM49120.html; ComponentLink3Description: TLA1611A Package Page; ComponentLink3URL: http://www.national.com/packaging/folders/tla1611a.html
footprint TLA1611A (Micro SMD, 16-Leads, Body 1.97x1.97mm, Pitch 0.5mm, NSC Recommended)
pins: A1 VOC (out), A2 VDD (power), A3 ROUT (out), A4 LOUT (out), B1 MONO_IN+ (in), B2 BYPASS, B3 LIN (in), B4 RIN (in), C1 MONO_IN- (in), C2 I2CVDD (power), C3 SCL (in), C4 SDA (in), D1 MONO- (out), D2 GND (power), D3 VDD (power), D4 MONO+ (out)

## LM49120TL/NOPB
designator U?
Audio Sub-System with Mono Class AB Loudspeaker Amplifier and Stereo OCL/SE Headphone Amplifier, 16-pin Micro SMD, Pb-Free; PartNumber: LM49120TL/NOPB; Manufacturer: National Semiconductor; PackageTopMarking: XYTT*I GK2; PowerWise: N; CompType: Audio IC; Published: 1-Mar-2010; DatasheetVersion: Jul-2008; PackageVersion: revC, Jan-2004; PackageReference: TLA1611A; Publisher: Altium Limited; PackageDescription: Thin Micro SMD, 16 Bump (Large), 0.5mm Pitch; Supplier 1: Digi-Key; Supplier Part Number 1: LM49120TLTR-ND; Supplier 2: Digi-Key; Supplier Part Number 2: LM49120TLCT-ND; Supplier 3: Digi-Key; Supplier Part Number 3: LM49120TLDKR-ND; RoHS: Y; PinCount: 16; Code_JEDEC: MO-211-DF; ComponentLink1Description: LM49120 Datasheet; ComponentLink1URL: http://www.national.com/ds/LM/LM49120.pdf; ComponentLink2Description: LM49120 Web Page; ComponentLink2URL: http://www.national.com/pf/LM/LM49120.html; ComponentLink3Description: TLA1611A Package Page; ComponentLink3URL: http://www.national.com/packaging/folders/tla1611a.html
footprint TLA1611A (Micro SMD, 16-Leads, Body 1.97x1.97mm, Pitch 0.5mm, NSC Recommended)
pins: A1 VOC (out), A2 VDD (power), A3 ROUT (out), A4 LOUT (out), B1 MONO_IN+ (in), B2 BYPASS, B3 LIN (in), B4 RIN (in), C1 MONO_IN- (in), C2 I2CVDD (power), C3 SCL (in), C4 SDA (in), D1 MONO- (out), D2 GND (power), D3 VDD (power), D4 MONO+ (out)

## LM49120TLX/NOPB
designator U?
Audio Sub-System with Mono Class AB Loudspeaker Amplifier and Stereo OCL/SE Headphone Amplifier, 16-pin Micro SMD, Pb-Free; PartNumber: LM49120TLX/NOPB; Manufacturer: National Semiconductor; PackageTopMarking: XYTT*I GK2; PowerWise: N; CompType: Audio IC; Published: 1-Mar-2010; DatasheetVersion: Jul-2008; PackageVersion: revC, Jan-2004; PackageReference: TLA1611A; Publisher: Altium Limited; PackageDescription: Thin Micro SMD, 16 Bump (Large), 0.5mm Pitch; Supplier 1: Digi-Key; Supplier Part Number 1: LM49120TLX-ND; RoHS: Y; PinCount: 16; Code_JEDEC: MO-211-DF; ComponentLink1Description: LM49120 Datasheet; ComponentLink1URL: http://www.national.com/ds/LM/LM49120.pdf; ComponentLink2Description: LM49120 Web Page; ComponentLink2URL: http://www.national.com/pf/LM/LM49120.html; ComponentLink3Description: TLA1611A Package Page; ComponentLink3URL: http://www.national.com/packaging/folders/tla1611a.html
footprint TLA1611A (Micro SMD, 16-Leads, Body 1.97x1.97mm, Pitch 0.5mm, NSC Recommended)
pins: A1 VOC (out), A2 VDD (power), A3 ROUT (out), A4 LOUT (out), B1 MONO_IN+ (in), B2 BYPASS, B3 LIN (in), B4 RIN (in), C1 MONO_IN- (in), C2 I2CVDD (power), C3 SCL (in), C4 SDA (in), D1 MONO- (out), D2 GND (power), D3 VDD (power), D4 MONO+ (out)

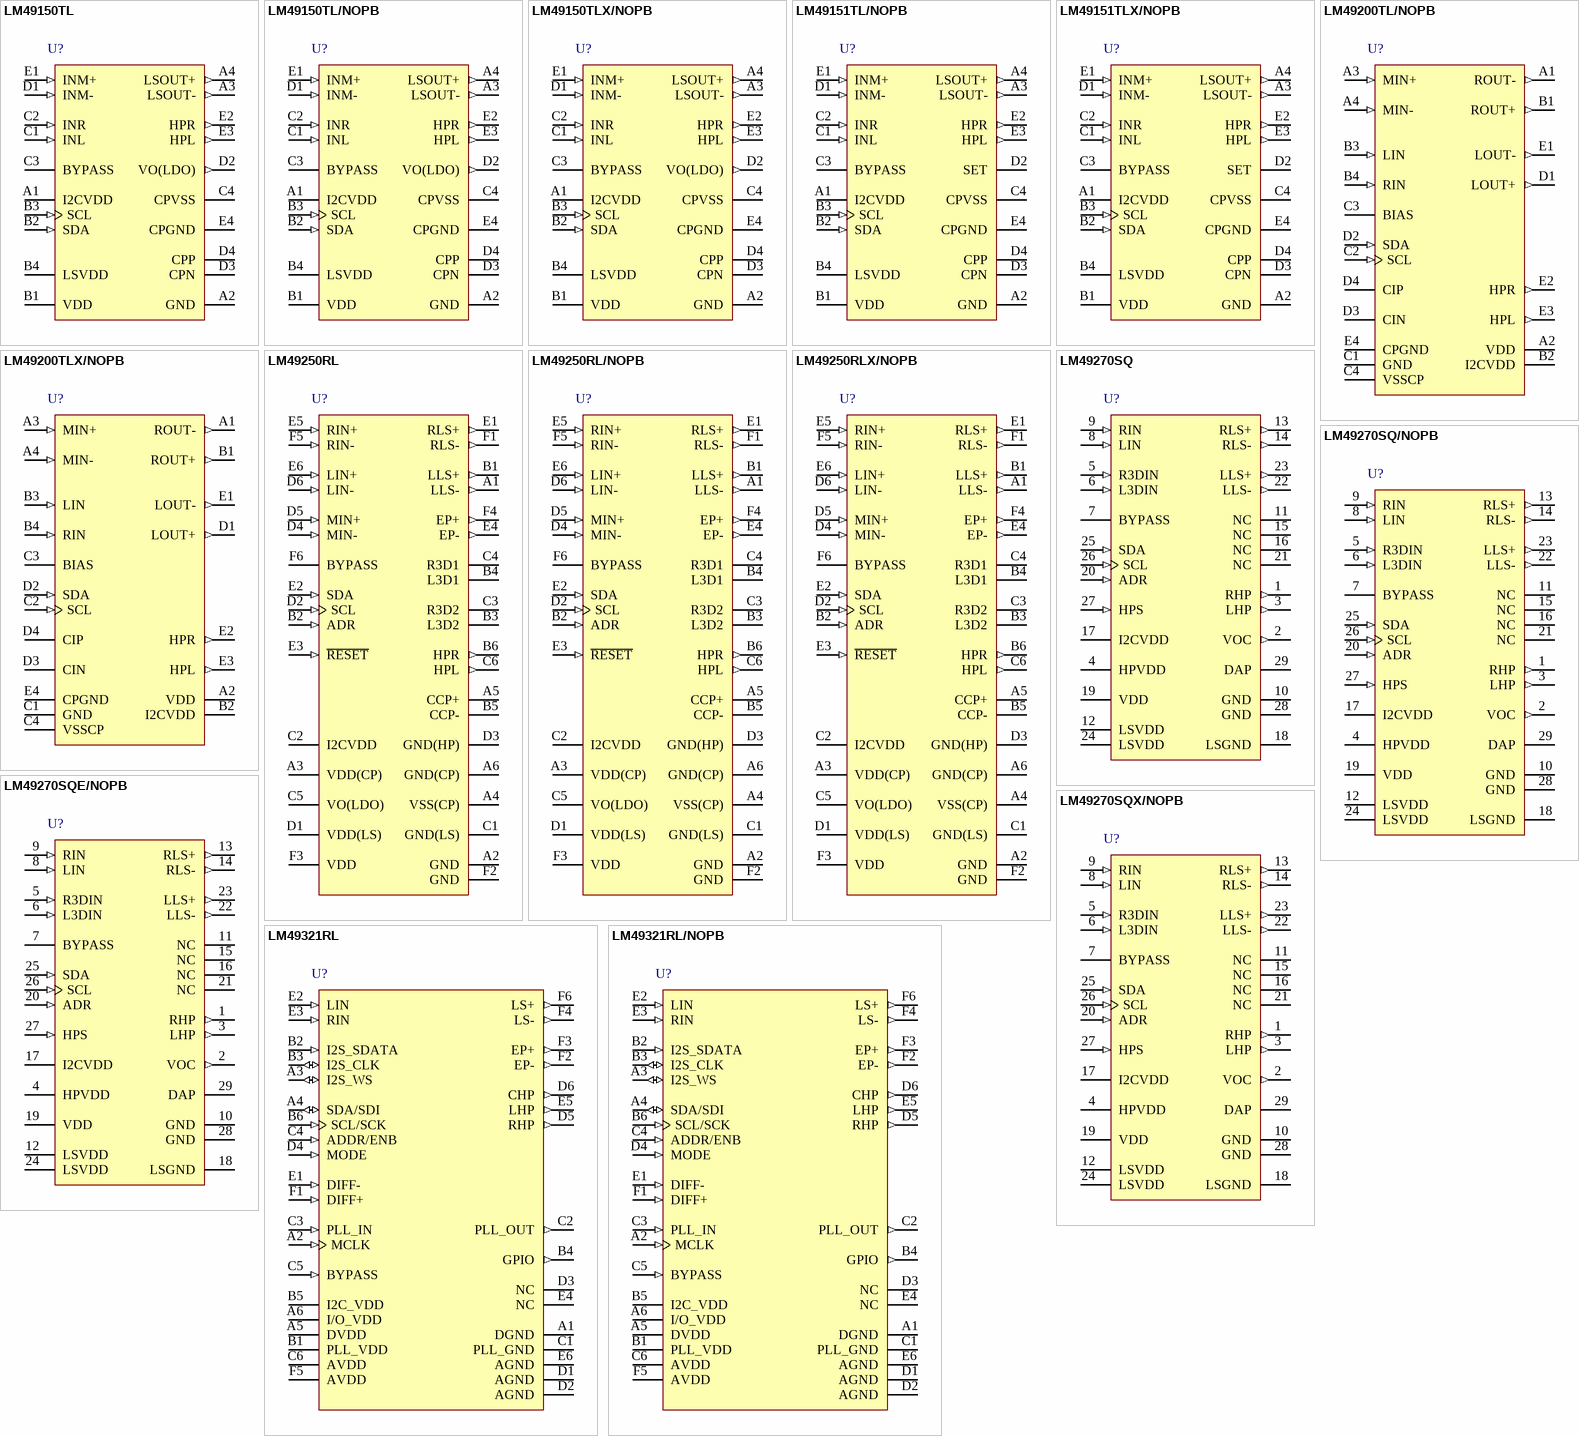
[diagram p21: symbols LM49150TL to LM49321RL/NOPB]

## LM49150TL
designator U?
Mono Class D Audio Subsystem with Earpiece Driver and Stereo Ground Referenced Headphone Amplifiers, 20-pin Micro SMD; PartNumber: LM49150TL; Manufacturer: National Semiconductor; PackageTopMarking: XYTT*I GK7; PowerWise: N; CompType: Audio IC; Published: 4-Dec-2008; DatasheetVersion: Mar-2009; PackageVersion: revC, Jan-2004; PackageReference: TLA20KGA; Publisher: Altium Limited; PackageDescription: Thin Micro SMD, 20 Bump (Large), 0.5mm Pitch; RoHS: Y; PinCount: 20; Code_JEDEC: MO-211-DG; ComponentLink1Description: LM49150 Datasheet; ComponentLink1URL: http://www.national.com/ds/LM/LM49150.pdf; ComponentLink2Description: LM49150 Web Page; ComponentLink2URL: http://www.national.com/pf/LM/LM49150.html; ComponentLink3Description: TLA20KGA Package Page; ComponentLink3URL: http://www.national.com/packaging/folders/tla20kga.html
footprint TLA20KGA (Micro SMD, 20-Leads, Body 2.64x2.23mm, Pitch 0.5mm, NSC Recommended)
pins: A1 I2CVDD (power), A2 GND (power), A3 LSOUT- (out), A4 LSOUT+ (out), B1 VDD (power), B2 SDA (in), B3 SCL (in), B4 LSVDD (power), C1 INL (in), C2 INR (in), C3 BYPASS, C4 CPVSS (power), D1 INM- (in), D2 VO(LDO) (out), D3 CPN, D4 CPP, E1 INM+ (in), E2 HPR (out), E3 HPL (out), E4 CPGND (power)